# EAGLE library part ADXRS450_CAV (library ADXRS450_SOIC)
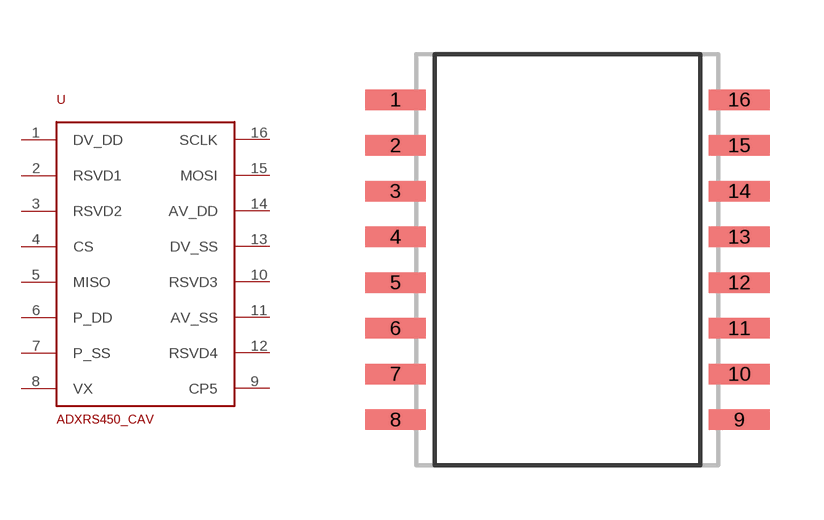
[diagram p0: symbol with the pads of SOIC_CAV_16; footprint SOIC_CAV_16]

Designator prefix -

## ADXRS450_CAV'SMD'  [SOIC_CAV_16]
1  DV_DD
2  RSVD1
3  RSVD2
4  CS
5  MISO
6  P_DD
7  P_SS
8  VX
9  CP5
10  RSVD3
11  AV_SS
12  RSVD4
13  DV_SS
14  AV_DD
15  MOSI
16  SCLK

## Footprint SOIC_CAV_16 (pad centres in mm)
smd 1.691 x 0.572: 1 -4.771,5.08; 2 -4.771,3.81; 3 -4.771,2.54; 4 -4.771,1.27; 5 -4.771,0; 6 -4.771,-1.27; 7 -4.771,-2.54; 8 -4.771,-3.81; 9 4.771,-3.81; 10 4.771,-2.54; 11 4.771,-1.27; 12 4.771,0; 13 4.771,1.27; 14 4.771,2.54; 15 4.771,3.81; 16 4.771,5.08